# Altium schematic symbol library NMOS_Infinion_BSO051N03MS G.SchLib: 1 symbol
Pins are listed as number, name and electrical type; pins without a type are passive.

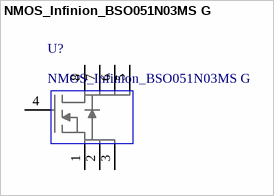
[diagram p0: symbol NMOS_Infinion_BSO051N03MS G]

## NMOS_Infinion_BSO051N03MS G
designator U?
pins: 1, 2, 3, 4, 5, 6, 7, 8